# EAGLE library part 4936B (library MMC Eagle)
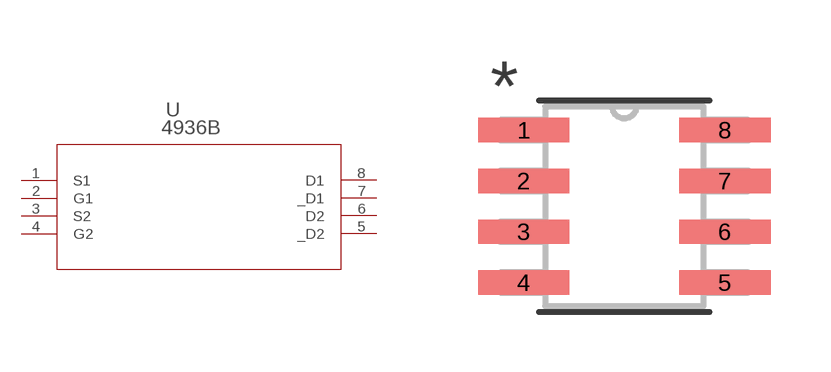
[diagram p8: symbol with the pads of M08A-M; footprint M08A-M]

Designator prefix U

## 4936BM08A-M (MANUFACTURER_PART_NUMBER: LM34DM; VENDOR: Texas Instruments)  [M08A-M]
1  S1  out
2  G1  pas
3  S2  pas
4  G2  pwr
5  _D2  pas
6  D2  pas
7  _D1  pas
8  D1  in

## Footprint M08A-M (pad centres in mm)
smd 2.286 x 0.61: 1 -2.515,1.905; 2 -2.515,0.635; 3 -2.515,-0.635; 4 -2.515,-1.905; 5 2.515,-1.905; 6 2.515,-0.635; 7 2.515,0.635; 8 2.515,1.905